# Altium footprint library EM3242 (1).PcbLib: 1 footprints
Each footprint in its own frame and in the unit in brackets; x right, y up, seen from the top. Pads: shape width x height; smd on the part's side, far side on the other; paste and mask are expansions set on the pad; w line width, h text height; cw(c..) or ccw(c..) is an arc to the next point about the centre after c.
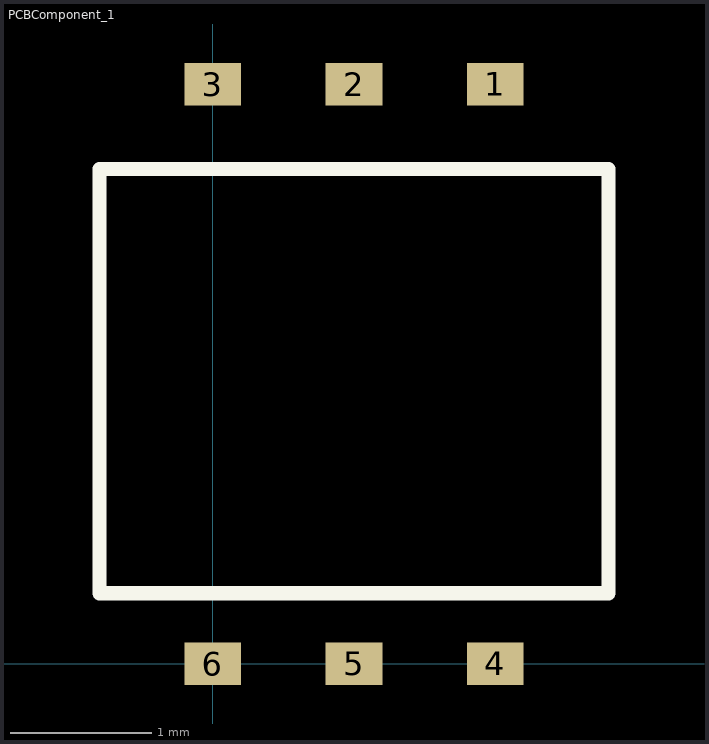
[diagram p0: the footprint, top view; thin cyan lines are the x and y axes]

## PCBComponent_1 [mm]
pads (6):
  rect 0.4x0.3 smd: 1(2,4.1) 2(1,4.1) 3(0,4.1) 4(2,0) 5(1,0) 6(0,0)
Top Overlay:
  lines w0.1: -0.8,0.5 -0.8,3.5 2.8,3.5 2.8,0.5 -0.8,0.5